# Altium footprint library digilent.PcbLib: 1 footprints
Each footprint in its own frame and in the unit in brackets; x right, y up, seen from the top. Pads: shape width x height; smd on the part's side, far side on the other; paste and mask are expansions set on the pad; w line width, h text height; cw(c..) or ccw(c..) is an arc to the next point about the centre after c.
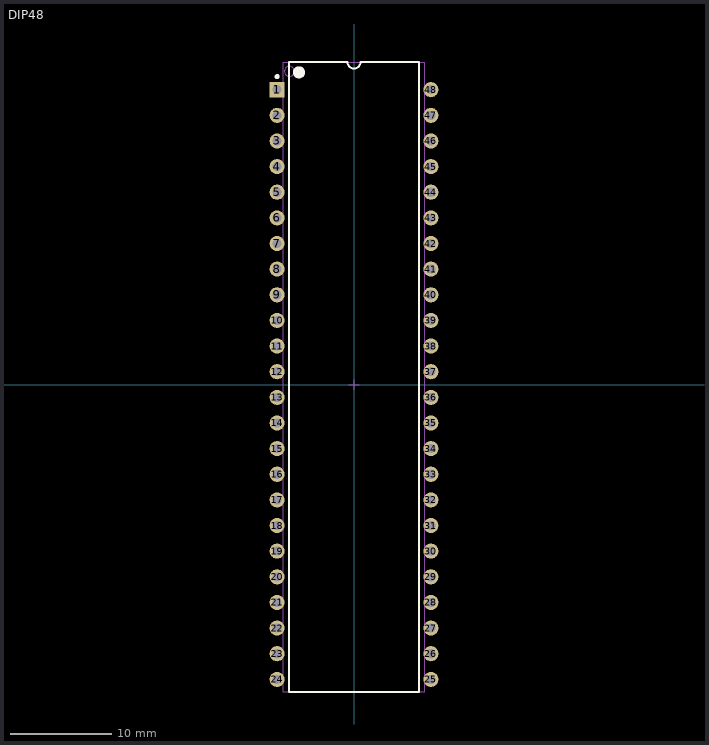
[diagram p0: the footprint, top view; thin cyan lines are the x and y axes]

## DIP48 [mm]
pads (48):
  rect 1.5x1.5 hole 0.9: 1(-7.62,29.21)
  round 1.5 hole 0.9: 2(-7.62,26.67) 3(-7.62,24.13) 4(-7.62,21.59) 5(-7.62,19.05) 6(-7.62,16.51) 7(-7.62,13.97) 8(-7.62,11.43) 9(-7.62,8.89) 10(-7.62,6.35) 11(-7.62,3.81) 12(-7.62,1.27) 13(-7.62,-1.27) 14(-7.62,-3.81) 15(-7.62,-6.35) 16(-7.62,-8.89) 17(-7.62,-11.43) 18(-7.62,-13.97) 19(-7.62,-16.51) 20(-7.62,-19.05) 21(-7.62,-21.59) 22(-7.62,-24.13) 23(-7.62,-26.67) 24(-7.62,-29.21) 25(7.62,-29.21) 26(7.62,-26.67) 27(7.62,-24.13) 28(7.62,-21.59) 29(7.62,-19.05) 30(7.62,-16.51) 31(7.62,-13.97) 32(7.62,-11.43) 33(7.62,-8.89) 34(7.62,-6.35) 35(7.62,-3.81) 36(7.62,-1.27) 37(7.62,1.27) 38(7.62,3.81) 39(7.62,6.35) 40(7.62,8.89) 41(7.62,11.43) 42(7.62,13.97) 43(7.62,16.51) 44(7.62,19.05) 45(7.62,21.59) 46(7.62,24.13) 47(7.62,26.67) 48(7.62,29.21)
Top Overlay:
  circle w0.6: c-5.45,30.93 r0.3
  circle w0.25: c-7.62,30.51 r0.125
  lines w0.2: -6.45,-30.48 6.45,-30.48 6.45,31.93 0.635,31.93 cw(c0,31.93) -0.635,31.93 -6.45,31.93 -6.45,-30.48
3D Top:
  circle w0.1: c-6.4,31.03 r0.5
  lines w0.1: -7,-30.42 -7,31.93 7,31.93 7,-30.42 -7,-30.42
Courtyard Top:
  lines w0.1: -0.5,0 0.5,0 ; 0,-0.508 0,0.492
3D body: height 5.72, standoff 0, extent -7.112,-30.48 7.112,32.004